# Altium schematic symbol library Plytka_rozwojowa_ZCAD.SCHLIB: 103 symbols (part 1 of 2)
Pins are listed as number, name and electrical type; pins without a type are passive.

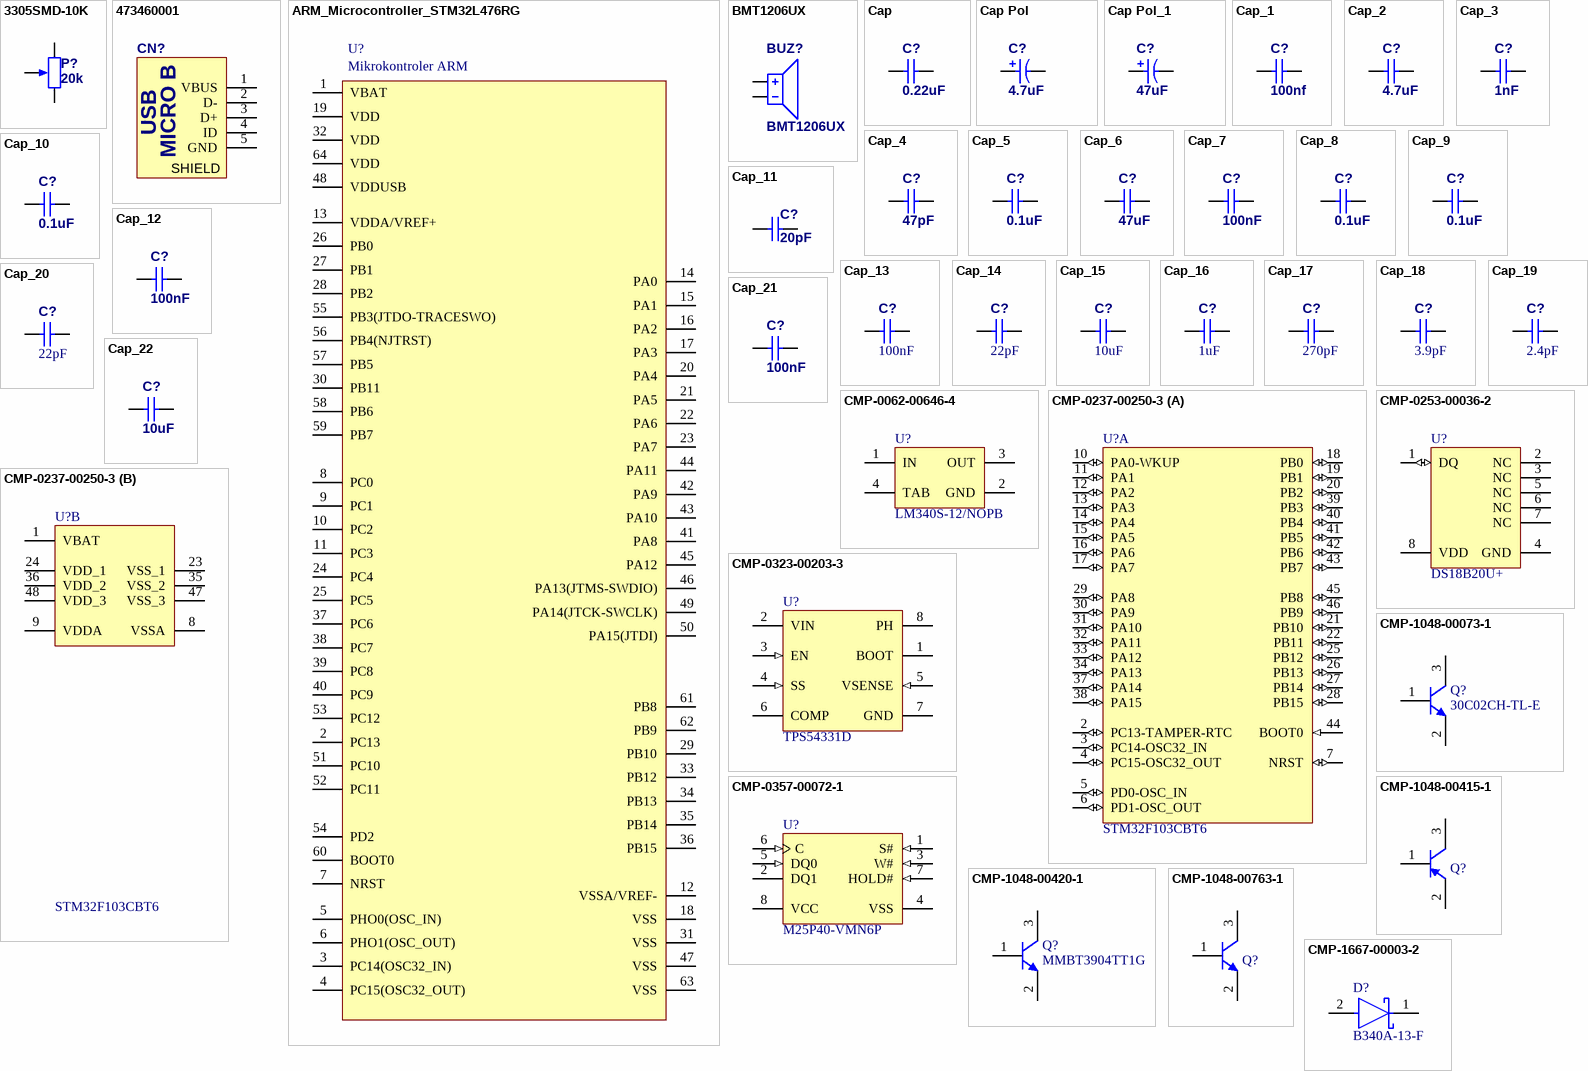
[diagram p0: symbols 3305SMD-10K to CMP-1667-00003-2]

## 3305SMD-10K
designator P?, comment 20k
3305SMD-10K; Published: 21-10-2009; ComponentLink1Description: datasheet; ComponentLink2Description: supplier; Value: 20k
footprint 3305SMD (SRPassives 3305 SMT trimming potentiometer)
pins: 1 TOP, 2 BOT, 3 TAP
1 alternate drawing of the same symbol

## 473460001
designator CN?  (value not drawn)
Molex 473460001 microUSB Connector; Published: 20-Mar-2006; Supplier 1: Farnell; Supplier 2: TME; Supplier Part Number 1: 2426321; Supplier Part Number 2: MX-47346-0001; Shop link: TME: @MX-105017-0001
footprint 473460001 (Molex 473460001 microUSB Connector)
pins: 1 VBUS "+5 VDC", 2 D- "Data -", 3 D+ "Data +", 4 ID "Ground", 5 GND "Ground", S SHIELD hidden "Shield"
text: USB; MICRO B

## ARM_Microcontroller_STM32L476RG
designator U?, comment Mikrokontroler ARM
Model: STM32L476RGT6; Shop link: https://pl.mouser.com/ProductDetail/STMicroelectronics/STM32L476RGT6?qs=o58qnh%2FCpu44V%252B7CaDZzCA%3D%3D; Quantity: *; Voltage: *; Assembly type: SMD; Footprint link: https://www.snapeda.com/parts/STM32L476RGT6/STMicroelectronics/view-part/?ref=search&t=STM32L476RGT6; Value: *; 3D model link: https://www.st.com/en/microcontrollers-microprocessors/stm32l476rg.html#cad-resources
footprint QFP50P1200X1200X160-64N
pins: 1 VBAT, 2 PC13, 3 PC14(OSC32_IN), 4 PC15(OSC32_OUT), 5 PHO0(OSC_IN), 6 PHO1(OSC_OUT), 7 NRST, 8 PC0, 9 PC1, 10 PC2, 11 PC3, 12 VSSA/VREF-, 13 VDDA/VREF+, 14 PA0, 15 PA1, 16 PA2, 17 PA3, 18 VSS, 19 VDD, 20 PA4, 21 PA5, 22 PA6, 23 PA7, 24 PC4, 25 PC5, 26 PB0, 27 PB1, 28 PB2, 29 PB10, 30 PB11, 31 VSS, 32 VDD, 33 PB12, 34 PB13, 35 PB14, 36 PB15, 37 PC6, 38 PC7, 39 PC8, 40 PC9, 41 PA8, 42 PA9, 43 PA10, 44 PA11, 45 PA12, 46 PA13(JTMS-SWDIO), 47 VSS, 48 VDDUSB, 49 PA14(JTCK-SWCLK), 50 PA15(JTDI), 51 PC10, 52 PC11, 53 PC12, 54 PD2, 55 PB3(JTDO-TRACESWO), 56 PB4(NJTRST), 57 PB5, 58 PB6, 59 PB7, 60 BOOT0, 61 PB8, 62 PB9, 63 VSS, 64 VDD

## BMT1206UX
designator BUZ?
Buzzer
footprint BUZ-12-7,6 (BUZZER (w generator), D:12mm, P:7,6mm (eg. BMT1203UX))
footprint BUZ-12-7,6-COVER (BUZZER (w generator), D:12mm, P:7,6mm (eg. BMT1203UX))
footprint Buzzer - LD-BZEG-1305 (https://www.tme.eu/pl/details/bmt-0912xh05/sygnalizatory-elektromag-z-generatorem/bestar/bmt0912xh05/)
pins: 1, 2

## Cap
designator C?  value 0.22uF
Ceramic capacitor MLCC SMD ±5%; ComponentLink1Description: datasheet; ComponentLink2Description: supplier
footprint C0805
footprint C1206
footprint CC2,5
footprint CC5
footprint CC7,5
footprint CC5-10-15
footprint C0603
footprint C0402
footprint CF5X10,5X10,3-7,5 (Polyester capacitor, 5(W)x10,5(H)x10,3(L); WIMA MKS4)
footprint CF2,5X7X10-7,5 (Polyester capacitor, 2,5(W)x7(H)x10(L); WIMA MKS4)
simulation model CAP (Default semiconductor capacitor)
footprint C1206_OLD
footprint C1210 (Chip Capacitor, Body 3.2x2.5mm, IPC High Density)
pins: 1, 2
2 alternate drawings of the same symbol

## Cap Pol
designator C?  value 4.7uF
Polarized Capacitor SMD low ESR ±1%; ComponentLink1Description: datasheet; ComponentLink2Description: supplier
footprint CE6,3x11-2,5 (Aluminium Electrolytic Capacitor -  Radius: 6,3mm, Height: 11mm, PinSpacing: 2,5mm)
footprint CE8x11,5-3,5 (Aluminium Electrolytic Capacitor -  Radius: 8mm, Height: 11,5mm, PinSpacing: 3,5mm)
footprint CE10x16-5 (Aluminium Electrolytic Capacitor -  Radius: 10mm, Height: 16mm, PinSpacing: 5mm)
footprint CE22-10 (Aluminium Electrolytic Capacitor -  Radius: 22mm, Height: xx mm, PinSpacing: 10mm)
footprint CE4x7-1,5 (Aluminium Electrolytic Capacitor -  Radius: 4mm, Height: 7mm, PinSpacing: 2mm)
footprint CE5x7-2 (Aluminium Electrolytic Capacitor -  Radius: 5mm, Height: 7mm, PinSpacing: 2mm)
footprint CE5x7-2_RA (Aluminium Electrolytic Capacitor -  Radius: 5mm, Height: 7mm, PinSpacing: 2mm, Right Angle)
footprint CE5x11-2 (Aluminium Electrolytic Capacitor -  Radius: 5mm, Height: 11mm, PinSpacing: 2mm)
footprint CE5x11-2_RA (Aluminium Electrolytic Capacitor -  Radius: 5mm, Height: 11mm, PinSpacing: 2mm, Right Angle)
footprint CE6,3x7-2,5 (Aluminium Electrolytic Capacitor -  Radius: 6,3mm, Height: 7mm, PinSpacing: 2,5mm)
footprint CE6,3x7-2,5_RA (Aluminium Electrolytic Capacitor -  Radius: 6,3mm, Height: 7mm, PinSpacing: 2,5mm, Right Angle)
footprint CE6,3x11-2 (Aluminium Electrolytic Capacitor -  Radius: 6,3mm, Height: 11mm, PinSpacing: 2,5mm)
footprint CE6,3x11-2_RA (Aluminium Electrolytic Capacitor -  Radius: 6,3mm, Height: 11mm, PinSpacing: 2mm, Right Angle)
footprint CE6,3x11-2,5_RA (Aluminium Electrolytic Capacitor -  Radius: 6,3mm, Height: 11mm, PinSpacing: 2,5mm, Right Angle)
footprint CE6,3x12,5-2,5 (Aluminium Electrolytic Capacitor -  Radius: 6,3mm, Height: 11mm, PinSpacing: 2,5mm)
footprint CE6,3x12,5-2,5_RA (Aluminium Electrolytic Capacitor -  Radius: 6,3mm, Height: 12,5mm, PinSpacing: 2,5mm, Right Angle)
footprint CE8x11,5-3,5_RA (Aluminium Electrolytic Capacitor -  Radius: 8mm, Height: 11,5mm, PinSpacing: 3,5mm, Right Angle)
footprint CE10x12,5-5 (Aluminium Electrolytic Capacitor -  Radius: 10mm, Height: 12,5mm, PinSpacing: 5mm)
footprint CE10x12,5-5_RA (Aluminium Electrolytic Capacitor -  Radius: 10mm, Height: 12,5mm, PinSpacing: 5mm, Right Angle)
footprint CE10x16-5_RA (Aluminium Electrolytic Capacitor -  Radius: 10mm, Height: 16mm, PinSpacing: 5mm, Right Angle)
footprint CE10x20-5 (Aluminium Electrolytic Capacitor -  Radius: 10mm, Height: 20mm, PinSpacing: 5mm)
footprint CE10x20-5_RA (Aluminium Electrolytic Capacitor -  Radius: 10mm, Height: 20mm, PinSpacing: 5mm, Right Angle)
footprint CES_A_3.3x3.3_5.4 (Electrolit Capacitor A Size; base: 3.3x3.3mm, height: 5.4mm)
footprint CES_B_4.3x4.3_5.4 (SMT Aluminum Electrolytic Capacitor, B Size; base: 4.3x4.3mm, height: 5.4mm)
footprint CES_C_5.3x5.3_5.4 (SMT Aluminum Electrolytic Capacitor, C Size; base: 5.3x5.3mm, height: 5.4mm)
footprint CES_D_6.6x6.6_5.4 (SMT Aluminum Electrolytic Capacitor, D Size; base: 6.6x6.6mm, height: 5.4mm)
footprint CES_D8_6.6x6.6_7.7 (SMT Aluminum Electrolytic Capacitor, D8 Size; base: 6.6x6.6mm, height: 7.7mm)
footprint CES_E_8.3x8.3_6.2 (SMT Aluminum Electrolytic Capacitor, E Size; base: 8.3x8.3mm, height: 6.2mm)
footprint CES_F_8.3x8.3_10.2 (SMT Aluminum Electrolytic Capacitor, F Size; base: 8.3x8.3mm, height: 10.2mm)
footprint CES_G_10.3x10.3_10.2 (SMT Aluminum Electrolytic Capacitor, G Size; base: 10.3x10.3mm, height: 10.2mm)
simulation model CAP (Default semiconductor capacitor)
pins: 1, 2
2 alternate drawings of the same symbol

## Cap Pol_1
designator C?  value 47uF
Polarized Capacitor SMD low ESR ±1%; ComponentLink1Description: datasheet; ComponentLink2Description: supplier
footprint CE6,3x11-2,5 (Aluminium Electrolytic Capacitor -  Radius: 6,3mm, Height: 11mm, PinSpacing: 2,5mm)
footprint CE8x11,5-3,5 (Aluminium Electrolytic Capacitor -  Radius: 8mm, Height: 11,5mm, PinSpacing: 3,5mm)
footprint CE10x16-5 (Aluminium Electrolytic Capacitor -  Radius: 10mm, Height: 16mm, PinSpacing: 5mm)
footprint CE22-10 (Aluminium Electrolytic Capacitor -  Radius: 22mm, Height: xx mm, PinSpacing: 10mm)
footprint CE4x7-1,5 (Aluminium Electrolytic Capacitor -  Radius: 4mm, Height: 7mm, PinSpacing: 2mm)
footprint CE5x7-2 (Aluminium Electrolytic Capacitor -  Radius: 5mm, Height: 7mm, PinSpacing: 2mm)
footprint CE5x7-2_RA (Aluminium Electrolytic Capacitor -  Radius: 5mm, Height: 7mm, PinSpacing: 2mm, Right Angle)
footprint CE5x11-2 (Aluminium Electrolytic Capacitor -  Radius: 5mm, Height: 11mm, PinSpacing: 2mm)
footprint CE5x11-2_RA (Aluminium Electrolytic Capacitor -  Radius: 5mm, Height: 11mm, PinSpacing: 2mm, Right Angle)
footprint CE6,3x7-2,5 (Aluminium Electrolytic Capacitor -  Radius: 6,3mm, Height: 7mm, PinSpacing: 2,5mm)
footprint CE6,3x7-2,5_RA (Aluminium Electrolytic Capacitor -  Radius: 6,3mm, Height: 7mm, PinSpacing: 2,5mm, Right Angle)
footprint CE6,3x11-2 (Aluminium Electrolytic Capacitor -  Radius: 6,3mm, Height: 11mm, PinSpacing: 2,5mm)
footprint CE6,3x11-2_RA (Aluminium Electrolytic Capacitor -  Radius: 6,3mm, Height: 11mm, PinSpacing: 2mm, Right Angle)
footprint CE6,3x11-2,5_RA (Aluminium Electrolytic Capacitor -  Radius: 6,3mm, Height: 11mm, PinSpacing: 2,5mm, Right Angle)
footprint CE6,3x12,5-2,5 (Aluminium Electrolytic Capacitor -  Radius: 6,3mm, Height: 11mm, PinSpacing: 2,5mm)
footprint CE6,3x12,5-2,5_RA (Aluminium Electrolytic Capacitor -  Radius: 6,3mm, Height: 12,5mm, PinSpacing: 2,5mm, Right Angle)
footprint CE8x11,5-3,5_RA (Aluminium Electrolytic Capacitor -  Radius: 8mm, Height: 11,5mm, PinSpacing: 3,5mm, Right Angle)
footprint CE10x12,5-5 (Aluminium Electrolytic Capacitor -  Radius: 10mm, Height: 12,5mm, PinSpacing: 5mm)
footprint CE10x12,5-5_RA (Aluminium Electrolytic Capacitor -  Radius: 10mm, Height: 12,5mm, PinSpacing: 5mm, Right Angle)
footprint CE10x16-5_RA (Aluminium Electrolytic Capacitor -  Radius: 10mm, Height: 16mm, PinSpacing: 5mm, Right Angle)
footprint CE10x20-5 (Aluminium Electrolytic Capacitor -  Radius: 10mm, Height: 20mm, PinSpacing: 5mm)
footprint CE10x20-5_RA (Aluminium Electrolytic Capacitor -  Radius: 10mm, Height: 20mm, PinSpacing: 5mm, Right Angle)
footprint CES_A_3.3x3.3_5.4 (Electrolit Capacitor A Size; base: 3.3x3.3mm, height: 5.4mm)
footprint CES_B_4.3x4.3_5.4 (SMT Aluminum Electrolytic Capacitor, B Size; base: 4.3x4.3mm, height: 5.4mm)
footprint CES_C_5.3x5.3_5.4 (SMT Aluminum Electrolytic Capacitor, C Size; base: 5.3x5.3mm, height: 5.4mm)
footprint CES_D_6.6x6.6_5.4 (SMT Aluminum Electrolytic Capacitor, D Size; base: 6.6x6.6mm, height: 5.4mm)
footprint CES_D8_6.6x6.6_7.7 (SMT Aluminum Electrolytic Capacitor, D8 Size; base: 6.6x6.6mm, height: 7.7mm)
footprint CES_E_8.3x8.3_6.2 (SMT Aluminum Electrolytic Capacitor, E Size; base: 8.3x8.3mm, height: 6.2mm)
footprint CES_F_8.3x8.3_10.2 (SMT Aluminum Electrolytic Capacitor, F Size; base: 8.3x8.3mm, height: 10.2mm)
footprint CES_G_10.3x10.3_10.2 (SMT Aluminum Electrolytic Capacitor, G Size; base: 10.3x10.3mm, height: 10.2mm)
simulation model CAP (Default semiconductor capacitor)
pins: 1, 2
2 alternate drawings of the same symbol

## Cap_1
designator C?  value 100nf
Ceramic capacitor MLCC SMD ±5%; Voltage: 100VDC; ComponentLink1Description: datasheet; ComponentLink2Description: supplier
footprint C0805
footprint C1206
footprint CC2,5
footprint CC5
footprint CC7,5
footprint CC5-10-15
footprint C0603
footprint C0402
footprint CF5X10,5X10,3-7,5 (Polyester capacitor, 5(W)x10,5(H)x10,3(L); WIMA MKS4)
footprint CF2,5X7X10-7,5 (Polyester capacitor, 2,5(W)x7(H)x10(L); WIMA MKS4)
simulation model CAP (Default semiconductor capacitor)
footprint C1206_OLD
footprint C1210 (Chip Capacitor, Body 3.2x2.5mm, IPC High Density)
pins: 1, 2
2 alternate drawings of the same symbol

## Cap_2
designator C?  value 4.7uF
Ceramic capacitor MLCC SMD ±5%; ComponentLink1Description: datasheet; ComponentLink2Description: supplier
footprint C0805
footprint C1206
footprint CC2,5
footprint CC5
footprint CC7,5
footprint CC5-10-15
footprint C0603
footprint C0402
footprint CF5X10,5X10,3-7,5 (Polyester capacitor, 5(W)x10,5(H)x10,3(L); WIMA MKS4)
footprint CF2,5X7X10-7,5 (Polyester capacitor, 2,5(W)x7(H)x10(L); WIMA MKS4)
simulation model CAP (Default semiconductor capacitor)
footprint C1206_OLD
footprint C1210 (Chip Capacitor, Body 3.2x2.5mm, IPC High Density)
pins: 1, 2
2 alternate drawings of the same symbol

## Cap_3
designator C?  value 1nF
Ceramic capacitor MLCC SMD ±5%; ComponentLink1Description: datasheet; ComponentLink2Description: supplier
footprint C0805
footprint C1206
footprint CC2,5
footprint CC5
footprint CC7,5
footprint CC5-10-15
footprint C0603
footprint C0402
footprint CF5X10,5X10,3-7,5 (Polyester capacitor, 5(W)x10,5(H)x10,3(L); WIMA MKS4)
footprint CF2,5X7X10-7,5 (Polyester capacitor, 2,5(W)x7(H)x10(L); WIMA MKS4)
simulation model CAP (Default semiconductor capacitor)
footprint C1206_OLD
footprint C1210 (Chip Capacitor, Body 3.2x2.5mm, IPC High Density)
pins: 1, 2
2 alternate drawings of the same symbol

## Cap_4
designator C?  value 47pF
Ceramic capacitor MLCC SMD ±5%; ComponentLink1Description: datasheet; ComponentLink2Description: supplier
footprint C0805
footprint C1206
footprint CC2,5
footprint CC5
footprint CC7,5
footprint CC5-10-15
footprint C0603
footprint C0402
footprint CF5X10,5X10,3-7,5 (Polyester capacitor, 5(W)x10,5(H)x10,3(L); WIMA MKS4)
footprint CF2,5X7X10-7,5 (Polyester capacitor, 2,5(W)x7(H)x10(L); WIMA MKS4)
simulation model CAP (Default semiconductor capacitor)
footprint C1206_OLD
footprint C1210 (Chip Capacitor, Body 3.2x2.5mm, IPC High Density)
pins: 1, 2
2 alternate drawings of the same symbol

## Cap_5
designator C?  value 0.1uF
Ceramic capacitor MLCC SMD ±5%; ComponentLink1Description: datasheet; ComponentLink2Description: supplier
footprint C0805
footprint C1206
footprint CC2,5
footprint CC5
footprint CC7,5
footprint CC5-10-15
footprint C0603
footprint C0402
footprint CF5X10,5X10,3-7,5 (Polyester capacitor, 5(W)x10,5(H)x10,3(L); WIMA MKS4)
footprint CF2,5X7X10-7,5 (Polyester capacitor, 2,5(W)x7(H)x10(L); WIMA MKS4)
simulation model CAP (Default semiconductor capacitor)
footprint C1206_OLD
footprint C1210 (Chip Capacitor, Body 3.2x2.5mm, IPC High Density)
pins: 1, 2
2 alternate drawings of the same symbol

## Cap_6
designator C?  value 47uF
Ceramic capacitor MLCC SMD ±5%; ComponentLink1Description: datasheet; ComponentLink2Description: supplier
footprint C0805
footprint C1206
footprint CC2,5
footprint CC5
footprint CC7,5
footprint CC5-10-15
footprint C0603
footprint C0402
footprint CF5X10,5X10,3-7,5 (Polyester capacitor, 5(W)x10,5(H)x10,3(L); WIMA MKS4)
footprint CF2,5X7X10-7,5 (Polyester capacitor, 2,5(W)x7(H)x10(L); WIMA MKS4)
simulation model CAP (Default semiconductor capacitor)
footprint C1206_OLD
footprint C1210 (Chip Capacitor, Body 3.2x2.5mm, IPC High Density)
pins: 1, 2
2 alternate drawings of the same symbol

## Cap_7
designator C?  value 100nF
Ceramic capacitor MLCC SMD ±1%; Voltage: 100VDC; ComponentLink1Description: datasheet; ComponentLink2Description: supplier
footprint C0805
footprint C1206
footprint CC2,5
footprint CC5
footprint CC7,5
footprint CC5-10-15
footprint C0603
footprint C0402
footprint CF5X10,5X10,3-7,5 (Polyester capacitor, 5(W)x10,5(H)x10,3(L); WIMA MKS4)
footprint CF2,5X7X10-7,5 (Polyester capacitor, 2,5(W)x7(H)x10(L); WIMA MKS4)
simulation model CAP (Default semiconductor capacitor)
footprint C1206_OLD
footprint C1210 (Chip Capacitor, Body 3.2x2.5mm, IPC High Density)
pins: 1, 2
2 alternate drawings of the same symbol

## Cap_8
designator C?, comment value 0.1uF  (hidden comment: 1uF)
Ceramic capacitor MLCC SMD ±5%; ComponentLink1Description: datasheet; ComponentLink2Description: supplier
footprint C0805
footprint C1206
footprint CC2,5
footprint CC5
footprint CC7,5
footprint CC5-10-15
footprint C0603
footprint C0402
footprint CF5X10,5X10,3-7,5 (Polyester capacitor, 5(W)x10,5(H)x10,3(L); WIMA MKS4)
footprint CF2,5X7X10-7,5 (Polyester capacitor, 2,5(W)x7(H)x10(L); WIMA MKS4)
simulation model CAP (Default semiconductor capacitor)
footprint C1206_OLD
footprint C1210 (Chip Capacitor, Body 3.2x2.5mm, IPC High Density)
pins: 1, 2
2 alternate drawings of the same symbol

## Cap_9
designator C?, comment value 0.1uF  (hidden comment: 100n)
Ceramic capacitor MLCC SMD ±5%; ComponentLink1Description: datasheet; ComponentLink2Description: supplier
footprint C0805
footprint C1206
footprint CC2,5
footprint CC5
footprint CC7,5
footprint CC5-10-15
footprint C0603
footprint C0402
footprint CF5X10,5X10,3-7,5 (Polyester capacitor, 5(W)x10,5(H)x10,3(L); WIMA MKS4)
footprint CF2,5X7X10-7,5 (Polyester capacitor, 2,5(W)x7(H)x10(L); WIMA MKS4)
simulation model CAP (Default semiconductor capacitor)
footprint C1206_OLD
footprint C1210 (Chip Capacitor, Body 3.2x2.5mm, IPC High Density)
pins: 1, 2
2 alternate drawings of the same symbol

## Cap_10
designator C?, comment value 0.1uF  (hidden comment: 10uF)
Ceramic capacitor MLCC SMD ±5%; ComponentLink1Description: datasheet; ComponentLink2Description: supplier
footprint C0805
footprint C1206
footprint CC2,5
footprint CC5
footprint CC7,5
footprint CC5-10-15
footprint C0603
footprint C0402
footprint CF5X10,5X10,3-7,5 (Polyester capacitor, 5(W)x10,5(H)x10,3(L); WIMA MKS4)
footprint CF2,5X7X10-7,5 (Polyester capacitor, 2,5(W)x7(H)x10(L); WIMA MKS4)
simulation model CAP (Default semiconductor capacitor)
footprint C1206_OLD
footprint C1210 (Chip Capacitor, Body 3.2x2.5mm, IPC High Density)
pins: 1, 2
2 alternate drawings of the same symbol

## Cap_11
designator C?, comment 20pF
Ceramic capacitor MLCC SMD ±1%; ComponentLink1Description: datasheet; ComponentLink2Description: supplier; Value: 20pF
footprint C0805
footprint C1206
footprint CC2,5
footprint CC5
footprint CC7,5
footprint CC5-10-15
footprint C0603
footprint C0402
footprint CF5X10,5X10,3-7,5 (Polyester capacitor, 5(W)x10,5(H)x10,3(L); WIMA MKS4)
footprint CF2,5X7X10-7,5 (Polyester capacitor, 2,5(W)x7(H)x10(L); WIMA MKS4)
simulation model CAP (Default semiconductor capacitor)
footprint C1206_OLD
footprint C1210 (Chip Capacitor, Body 3.2x2.5mm, IPC High Density)
pins: 1, 2
2 alternate drawings of the same symbol

## Cap_12
designator C?, comment 100nF
Ceramic capacitor MLCC SMD ±5%; ComponentLink1Description: datasheet; ComponentLink2Description: supplier; Value: 100nF
footprint C0805
footprint C1206
footprint CC2,5
footprint CC5
footprint CC7,5
footprint CC5-10-15
footprint C0603
footprint C0402
footprint CF5X10,5X10,3-7,5 (Polyester capacitor, 5(W)x10,5(H)x10,3(L); WIMA MKS4)
footprint CF2,5X7X10-7,5 (Polyester capacitor, 2,5(W)x7(H)x10(L); WIMA MKS4)
simulation model CAP (Default semiconductor capacitor)
footprint C1206_OLD
footprint C1210 (Chip Capacitor, Body 3.2x2.5mm, IPC High Density)
pins: 1, 2
2 alternate drawings of the same symbol

## Cap_13
designator C?, comment 100nF
Ceramic capacitor MLCC SMD ±1%; ComponentLink1Description: datasheet; ComponentLink2Description: supplier; Value: 100nF
footprint C0805
footprint C1206
footprint CC2,5
footprint CC5
footprint CC7,5
footprint CC5-10-15
footprint C0603
footprint C0402
footprint CF5X10,5X10,3-7,5 (Polyester capacitor, 5(W)x10,5(H)x10,3(L); WIMA MKS4)
footprint CF2,5X7X10-7,5 (Polyester capacitor, 2,5(W)x7(H)x10(L); WIMA MKS4)
simulation model CAP (Default semiconductor capacitor)
footprint C1206_OLD
footprint C1210 (Chip Capacitor, Body 3.2x2.5mm, IPC High Density)
pins: 1, 2
2 alternate drawings of the same symbol

## Cap_14
designator C?, comment 22pF
Ceramic capacitor MLCC SMD ±1%; ComponentLink1Description: datasheet; ComponentLink2Description: supplier; Value: 22pF
footprint C0805
footprint C1206
footprint CC2,5
footprint CC5
footprint CC7,5
footprint CC5-10-15
footprint C0603
footprint C0402
footprint CF5X10,5X10,3-7,5 (Polyester capacitor, 5(W)x10,5(H)x10,3(L); WIMA MKS4)
footprint CF2,5X7X10-7,5 (Polyester capacitor, 2,5(W)x7(H)x10(L); WIMA MKS4)
simulation model CAP (Default semiconductor capacitor)
footprint C1206_OLD
footprint C1210 (Chip Capacitor, Body 3.2x2.5mm, IPC High Density)
pins: 1, 2
2 alternate drawings of the same symbol

## Cap_15
designator C?, comment 10uF
Ceramic capacitor MLCC SMD ±1%; Value: 100nF; ComponentLink1Description: datasheet; ComponentLink2Description: supplier
footprint C0805
footprint C1206
footprint CC2,5
footprint CC5
footprint CC7,5
footprint CC5-10-15
footprint C0603
footprint C0402
footprint CF5X10,5X10,3-7,5 (Polyester capacitor, 5(W)x10,5(H)x10,3(L); WIMA MKS4)
footprint CF2,5X7X10-7,5 (Polyester capacitor, 2,5(W)x7(H)x10(L); WIMA MKS4)
simulation model CAP (Default semiconductor capacitor)
footprint C1206_OLD
footprint C1210 (Chip Capacitor, Body 3.2x2.5mm, IPC High Density)
pins: 1, 2
2 alternate drawings of the same symbol

## Cap_16
designator C?, comment 1uF
Ceramic capacitor MLCC SMD ±1%; Value: 100nF; ComponentLink1Description: datasheet; ComponentLink2Description: supplier
footprint C0805
footprint C1206
footprint CC2,5
footprint CC5
footprint CC7,5
footprint CC5-10-15
footprint C0603
footprint C0402
footprint CF5X10,5X10,3-7,5 (Polyester capacitor, 5(W)x10,5(H)x10,3(L); WIMA MKS4)
footprint CF2,5X7X10-7,5 (Polyester capacitor, 2,5(W)x7(H)x10(L); WIMA MKS4)
simulation model CAP (Default semiconductor capacitor)
footprint C1206_OLD
footprint C1210 (Chip Capacitor, Body 3.2x2.5mm, IPC High Density)
pins: 1, 2
2 alternate drawings of the same symbol

## Cap_17
designator C?, comment 270pF
Ceramic capacitor MLCC SMD ±1%; Value: 100nF; ComponentLink1Description: datasheet; ComponentLink2Description: supplier
footprint C0805
footprint C1206
footprint CC2,5
footprint CC5
footprint CC7,5
footprint CC5-10-15
footprint C0603
footprint C0402
footprint CF5X10,5X10,3-7,5 (Polyester capacitor, 5(W)x10,5(H)x10,3(L); WIMA MKS4)
footprint CF2,5X7X10-7,5 (Polyester capacitor, 2,5(W)x7(H)x10(L); WIMA MKS4)
simulation model CAP (Default semiconductor capacitor)
footprint C1206_OLD
footprint C1210 (Chip Capacitor, Body 3.2x2.5mm, IPC High Density)
pins: 1, 2
2 alternate drawings of the same symbol

## Cap_18
designator C?, comment 3.9pF
Ceramic capacitor MLCC SMD ±1%; Value: 100nF; ComponentLink1Description: datasheet; ComponentLink2Description: supplier
footprint C0805
footprint C1206
footprint CC2,5
footprint CC5
footprint CC7,5
footprint CC5-10-15
footprint C0603
footprint C0402
footprint CF5X10,5X10,3-7,5 (Polyester capacitor, 5(W)x10,5(H)x10,3(L); WIMA MKS4)
footprint CF2,5X7X10-7,5 (Polyester capacitor, 2,5(W)x7(H)x10(L); WIMA MKS4)
simulation model CAP (Default semiconductor capacitor)
footprint C1206_OLD
footprint C1210 (Chip Capacitor, Body 3.2x2.5mm, IPC High Density)
pins: 1, 2
2 alternate drawings of the same symbol

## Cap_19
designator C?, comment 2.4pF
Ceramic capacitor MLCC SMD ±1%; Value: 100nF; ComponentLink1Description: datasheet; ComponentLink2Description: supplier
footprint C0805
footprint C1206
footprint CC2,5
footprint CC5
footprint CC7,5
footprint CC5-10-15
footprint C0603
footprint C0402
footprint CF5X10,5X10,3-7,5 (Polyester capacitor, 5(W)x10,5(H)x10,3(L); WIMA MKS4)
footprint CF2,5X7X10-7,5 (Polyester capacitor, 2,5(W)x7(H)x10(L); WIMA MKS4)
simulation model CAP (Default semiconductor capacitor)
footprint C1206_OLD
footprint C1210 (Chip Capacitor, Body 3.2x2.5mm, IPC High Density)
pins: 1, 2
2 alternate drawings of the same symbol

## Cap_20
designator C?, comment 22pF
Ceramic capacitor MLCC SMD ±1%; Value: 100nF; ComponentLink1Description: datasheet; ComponentLink2Description: supplier
footprint C0805
footprint C1206
footprint CC2,5
footprint CC5
footprint CC7,5
footprint CC5-10-15
footprint C0603
footprint C0402
footprint CF5X10,5X10,3-7,5 (Polyester capacitor, 5(W)x10,5(H)x10,3(L); WIMA MKS4)
footprint CF2,5X7X10-7,5 (Polyester capacitor, 2,5(W)x7(H)x10(L); WIMA MKS4)
simulation model CAP (Default semiconductor capacitor)
footprint C1206_OLD
footprint C1210 (Chip Capacitor, Body 3.2x2.5mm, IPC High Density)
pins: 1, 2
2 alternate drawings of the same symbol

## Cap_21
designator C?, comment 100nF
Capacitor; ComponentLink1Description: datasheet; ComponentLink2Description: supplier; Value: 100nF
footprint C0805
footprint C1206
footprint CC2,5
footprint CC5
footprint CC7,5
footprint CC5-10-15
footprint C0603
footprint C0402
footprint CF5X10,5X10,3-7,5 (Polyester capacitor, 5(W)x10,5(H)x10,3(L); WIMA MKS4)
footprint CF2,5X7X10-7,5 (Polyester capacitor, 2,5(W)x7(H)x10(L); WIMA MKS4)
simulation model CAP (Default semiconductor capacitor)
footprint C1206_OLD
footprint C1210 (Chip Capacitor, Body 3.2x2.5mm, IPC High Density)
pins: 1, 2
2 alternate drawings of the same symbol

## Cap_22
designator C?, comment 10uF
Capacitor; ComponentLink1Description: datasheet; ComponentLink2Description: supplier; Value: 10uF
footprint C0805
footprint C1206
footprint CC2,5
footprint CC5
footprint CC7,5
footprint CC5-10-15
footprint C0603
footprint C0402
footprint CF5X10,5X10,3-7,5 (Polyester capacitor, 5(W)x10,5(H)x10,3(L); WIMA MKS4)
footprint CF2,5X7X10-7,5 (Polyester capacitor, 2,5(W)x7(H)x10(L); WIMA MKS4)
simulation model CAP (Default semiconductor capacitor)
footprint C1206_OLD
footprint C1210 (Chip Capacitor, Body 3.2x2.5mm, IPC High Density)
pins: 1, 2
2 alternate drawings of the same symbol

## CMP-0062-00646-4
designator U?, comment LM340S-12/NOPB
Series 3-Terminal Positive Regulators, 3-pin TO-263, Pb-Free; Manufacturer: Texas Instruments; Manufacturer 1: TI National Semiconductor; PackageTopMarking: NSUZXYTTE#*LM340S*-12 P+; CompType: LDO IC; PowerWise: N; Voltage: 35V; Current: 1.5A; RoHS: Y; PackageDescription: TO-263, Molded, .400 x .390 x .180in, 3 Lead, .1in Pitch, Surface Mount; ComponentLink1URL: http://www.ti.com/general/docs/lit/getliterature.tsp?genericPartNumber=LM340&fileType=pdf; PinCount: 3; ComponentLink1Description: Datasheet URL; Code_JEDEC: MO-169-AA; PackageReference: KTT0003B; Footprint: TO-263; Footprint model: https://octopart.com/lm340s-12%2Fnopb-texas+instruments-24813791?r=sp#CadModels; 3D model: https://octopart.com/lm340s-12%2Fnopb-texas+instruments-24813791?r=sp#CadModels; Shop link: Mouser: @926-LM340S-12/NOPB; Manufacturer Part Number 1: LM340S-12/NOPB
footprint KTT0003B_N (D2-PAK, 3-Leads, Body 10.41x8.89mm, Pitch 2.54mm, IPC Medium Density)
footprint KTT0003B_M (D2-PAK, 3-Leads, Body 10.41x8.89mm, Pitch 2.54mm, IPC Low Density)
footprint KTT0003B_L (D2-PAK, 3-Leads, Body 10.41x8.89mm, Pitch 2.54mm, IPC High Density)
pins: 1 IN (power), 2 GND (power), 3 OUT (power), 4 TAB (power)

## CMP-0237-00250-3
designator U?, comment STM32F103CBT6
ARM Cortex-M3 32-bit MCU, 128 KB Flash, 20 KB Internal RAM, 37 I/Os, 48-pin LQFP, -40 to 85 degC, Tray; Manufacturer 1: STMicroelectronics; Supply Voltage(Vcc) min (V): 2; Operating Frequency(F) (Processor speed) (MHz): 72; A/D Converter: 2x12-bit (10 Channel); FLASH Size (Prog) (kB): 128; Internal RAM Size (kB): 20; I/Os (High Current): 37; Voltage: 3.3V; ComponentLink2Description: Datasheet; PackageReference: LQFP48; PartNumber: STM32F103CBT6; ComponentLink1Description: Manufacturer URL; DatasheetVersion: Rev. 16; PackageVersion: Rev. 6, 06/2013; Packing: Tray; ComponentLink1URL: http://www.st.com/web/en/home.html; Mounting Technology: Surface Mount; ComponentLink3URL: http://www.st.com/st-web-ui/static/active/en/resource/technical/document/datasheet/DM00058181.pdf; PackageDescription: 48-Pin Low Profile Quad Flat Package, 7 x 7 mm Body, 0.5 mm Pitch; Core: ARM Cortex-M3; ComponentLink3Description: Package Specification; ComponentLink2URL: http://www.st.com/st-web-ui/static/active/en/resource/technical/document/datasheet/CD00161566.pdf; Footprint: LQFP; Footprint model: https://octopart.com/stm32f103cbt6-stmicroelectronics-7868657?r=sp#Specs; 3D model: https://octopart.com/stm32f103cbt6-stmicroelectronics-7868657?r=sp#Specs; Shop link: Digi-Key: @497-6288-ND; Manufacturer Part Number 1: STM32F103CBT6
footprint STM-LQFP48_L (QFP, 48-Leads, Body 7x7mm, Pitch 0.5mm, IPC High Density)
footprint STM-LQFP48_N (QFP, 48-Leads, Body 7x7mm, Pitch 0.5mm, IPC Medium Density)
footprint STM-LQFP48_M (QFP, 48-Leads, Body 7x7mm, Pitch 0.5mm, IPC Low Density)
part A pins: 2 PC13-TAMPER-RTC (io) "PC13-TAMPER-RTC/PC13/TAMPER-RTC", 3 PC14-OSC32_IN (io) "PC14-OSC32_IN/PC14/OSC32_IN", 4 PC15-OSC32_OUT (io) "PC15-OSC32_OUT/PC15/OSC32_OUT", 5 PD0-OSC_IN (io) "PD0/OSC_IN", 6 PD1-OSC_OUT (io) "PD1/OSC_OUT", 7 NRST (io), 10 PA0-WKUP (io) "PA0-WKUP/PA0/WKUP/USART2_CTS/ADC12_IN0/TIM2_CH1_ETR", 11 PA1 (io) "PA1/USART2_RTS/ADC12_IN1/TIM2_CH2", 12 PA2 (io) "PA2/USART2_TX/ADC12_IN2/TIM2_CH3", 13 PA3 (io) "PA3/USART2_RX/ADC12_IN3/TIM2_CH4", 14 PA4 (io) "PA4/SPI1_NSS/USART2_CK/ADC12_IN4", 15 PA5 (io) "PA5/SPI1_SCK/ADC12_IN5", 16 PA6 (io) "PA6/SPI1_MISO/ADC12_IN6/TIM3_CH1/TIM1_BKIN", 17 PA7 (io) "PA7/SPI1_MOSI/ADC12_IN7/TIM3_CH2/TIM1_CH1N", 18 PB0 (io) "PB0/ADC12_IN8/TIM3_CH3/TIM1_CH2N", 19 PB1 (io) "PB1/ADC12_IN9/TIM3_CH4/TIM1_CH3N", 20 PB2 (io) "PB2/BOOT1", 21 PB10 (io) "PB10/I2C2_SCL/USART3_TX/TIM2_CH3", 22 PB11 (io) "PB11/I2C2_SDA/USART3_RX/TIM2_CH4", 25 PB12 (io) "PB12/SPI2_NSS/I2C2_SMBAl/USART3_CK/TIM1_BKIN", 26 PB13 (io) "PB13/SPI2_SCK/USART3_CTS/TIM1_CH1N", 27 PB14 (io) "PB14/SPI2_MISO/USART3_RTS/TIM1_CH2N", 28 PB15 (io) "PB15/SPI2_MOSI/TIM1_CH3N", 29 PA8 (io) "PA8/USART1_CK/TIM1_CH1/MCO", 30 PA9 (io) "PA9/USART1_TX/TIM1_CH2", 31 PA10 (io) "PA10/USART1_RX/TIM1_CH3", 32 PA11 (io) "PA11/USART1_CTS/CANRX/USBDM/TIM1_CH4", 33 PA12 (io) "PA12/USART1_RTS/CANTX/USBDP/TIM1_ETR", 34 PA13 (io) "PA13/JTMS/SWDIO", 37 PA14 (io) "PA14/JTCK/SWCLK", 38 PA15 (io) "PA15/JTDI/TIM2_CH1_ETR/SPI1_NSS", 39 PB3 (io) "PB3/JTDO/TIM2_CH2/TRACESWO/SPI1_SCK", 40 PB4 (io) "PB4/NJTRST/TIM3_CH1/SPI1_MISO", 41 PB5 (io) "PB5/I2C1_SMBAI/TIM3_CH2/SPI1_MOSI", 42 PB6 (io) "PB6/I2C1_SCL/TIM4_CH1/USART1_TX", 43 PB7 (io) "PB7/I2C1_SDA/TIM4_CH2/USART1_RX", 44 BOOT0 (in), 45 PB8 (io) "PB8/TIM4_CH3/I2C1_SCL/CANRX", 46 PB9 (io) "PB9/TIM4_CH4/I2C1_SDA/CANTX"
part B pins: 1 VBAT (power), 8 VSSA (power), 9 VDDA (power), 23 VSS_1 (power), 24 VDD_1 (power), 35 VSS_2 (power), 36 VDD_2 (power), 47 VSS_3 (power), 48 VDD_3 (power)

## CMP-0253-00036-2
designator U?, comment DS18B20U+
High-Precision 1-Wire Digital Thermometer, -55 to 125 degC, 8-Pin SOP (U8+1), Pb-Free; Manufacturer 1: Maxim; Sensor Type: Local; Multi Droppable: Yes; Temp. Thresh.: Programmable (NV); PackageVersion: Rev. L, 08/2009; Generic Part Number: DS18B20; PackageReference: U8+1; PackageDescription: 8-Pin Micro-MAX, Thin Shrink Small-Outline (U8+1), Body 3 x 3 mm, Pitch 0.65 mm; ComponentLink3URL: http://pdfserv.maximintegrated.com/package_dwgs/21-0036.PDF; Code_JEDEC: MO-187; DatasheetVersion: Rev. 4; ComponentLink1Description: Manufacturer URL; Mounting Technology: Surface Mount; ComponentLink1URL: http://www.maximintegrated.com/; Parasite Pwr.: Yes; RoHS: Pb-Free; ComponentLink2URL: http://datasheets.maximintegrated.com/en/ds/DS18B20.pdf; ComponentLink2Description: Datasheet; Interface: 1-Wire; PartNumber: DS18B20U+; ComponentLink3Description: Package Specification; Manufacturer Part Number 1: DS18B20U+
footprint MAXM-U8+1_L (SOP, 8-Leads, Body 3x3mm, Pitch 0.65mm, IPC High Density)
footprint MAXM-U8+1_N (SOP, 8-Leads, Body 3x3mm, Pitch 0.65mm, IPC Medium Density)
footprint MAXM-U8+1_M (SOP, 8-Leads, Body 3x3mm, Pitch 0.65mm, IPC Low Density)
pins: 1 DQ (io) "Data Input/Output. Open-drain 1-Wire interface pin. Also provides power to the device when used in parasite power mode (see the Powering the DS18B20 section.)", 2 NC "No Connection", 3 NC "No Connection", 4 GND (power) "Ground", 5 NC "No Connection", 6 NC "No Connection", 7 NC "No Connection", 8 VDD (power) "Optional VDD. VDD must be grounded for operation in parasite power mode."

## CMP-0323-00203-3
designator U?, comment TPS54331D
Buck Step Down Regulator SMD  -40 to 150 degC,; Manufacturer: Texas Instruments; Regulated Outputs(#): 1; Vout(Min)(V): 0.8; Iout(Max)(A): 3; Vin(Min)(V): 3.5; Eco-Plan: Green (RoHS & no Sb/Br); Rating: Catalog; SubFamily: Step-Down Regulator; Vout(Max)(V): 25; Iq(Typ)(mA): 0.11; Vin(Max)(V): 28; Duty Cycle(Max)(%): 90; Current: 3A; Voltage: 3.5 to 28 VIN ; 0.8 to 25 VOUT; ComponentLink3Description: URL Link1; ComponentLink1URL: http://www.ti.com/general/docs/lit/getliterature.tsp?genericPartNumber=TPS54331&fileType=pdf; Code_JEDEC: MS-012AA; PartNumber: TPS54331D; PackageVersion: revM, Jun-2011; ComponentLink1Description: Datasheet; PackageReference: D0008A; PackageDescription: 8-Pin Plastic Small Outline Integrated Circuit, 4.9 x 3.9 mm, Pitch 1.27 mm Pitch; ComponentLink2URL: http://www.ti.com/litv/pdf/msoi002j; DatasheetVersion: SLVS839D; Topology: Buck; Switch Current Limit(Typ)(A): 3.5; ComponentLink3URL: Samples URL:http://www.ti.com/product/tps54331#samples; ComponentLink2Description: Package Specification; Mounting Technology: Surface Mount; Footprint: 8-Pin SOIC (D); Footprint model: https://octopart.com/tps54331d-texas+instruments-8252552?r=sp; 3D model: https://octopart.com/tps54331d-texas+instruments-8252552?r=sp; Shop link: RS Components: @6618521P; Manufacturer 1: Texas Instruments; Manufacturer Part Number 1: TPS54331D
footprint D0008A_L (SOIC, 8-Leads, Body 5x4mm, Pitch 1.27mm, IPC High Density)
footprint D0008A_M (SOIC, 8-Leads, Body 5x4mm, Pitch 1.27mm, IPC Low Density)
footprint D0008A_N (SOIC, 8-Leads, Body 5x4mm, Pitch 1.27mm, IPC Medium Density)
pins: 1 BOOT "A 0.1 uF bootstrap capacitor is required between BOOT and PH. If the voltage on this capacitor falls below the minimum requirement, the high-side MOSFET is forced to switch off until the capacitor is refreshed", 2 VIN (power) "Input supply voltage, 3.5 V to 28 V.", 3 EN (in) "Enable pin. Pull below 1.25V to disable. Float to enable. Programming the input undervoltage lockout with two resistors is recommended.", 4 SS (in) "Slow start pin. An external capacitor connected to this pin sets the output rise time.", 5 VSENSE (in) "Inverting node of the gm error amplifier.", 6 COMP "Error amplifier output, and input to the PWM comparator. Connect frequency compensation components to this pin.", 7 GND (power) "Ground", 8 PH (power) "The source of the internal high-side power MOSFET"

## CMP-0357-00072-1
designator U?, comment M25P40-VMN6P
4 Mb (x1) Serial NOR Flash Memory, 75 MHz, 2.3 to 3.6 V, 8-pin SO8 Narrow (MN), Tube; Manufacturer: Micron; Part Family: M25PÂ; Manufacturer 1: Micron Technology; Speed: 75 MHzÂ; Density: 4MbÂ; Voltage: 2.3V-3.6VÂ; PackageDescription: 8-Pin SO Narrow, 3.9 X 4.9 mm, Pitch 1.27 mm; ComponentLink2URL: http://www.micron.com/~/media/Documents/Products/Data%20Sheet/NOR%20Flash/Serial%20NOR/M25P/M25P40.pdf; Part Status: ProductionÂ; Package: SO8 NarrowÂ; RoHS: YesÂ; PackageReference: MICT-MN-8; Mounting Technology: Surface Mount; Type: Data StorageÂ; DatasheetVersion: Rev. Y; ComponentLink2Description: Datasheet; PartNumber: M25P40-VMN6P; Width: x1Â; ComponentLink1URL: http://www.micron.com/; ComponentLink3Description: Package Specification; Applications: EmbeddedÂ; ComponentLink1Description: Manufacturer URL; PackageVersion: Rev 11; ComponentLink3URL: http://www.micron.com/~/media/Documents/Products/Data%20Sheet/NOR%20Flash/Serial%20NOR/M25P/M25P05A.pdf; Manufacturer Part Number 1: M25P40-VMN6P
footprint MICT-MN-8_N (SOIC, 8-Leads, Body 5x4mm, Pitch 1.27mm, IPC Medium Density)
pins: 1 S# (in) "Chip select: When the S# input signal is HIGH, the device is deselected and DQ1 is at HIGH impedance. Unless an internal PROGRAM, ERASE, or WRITE STATUS REGISTER cycle is in progress, the device will be in the standby power (See Datasheet)", 2 DQ1 (hiz) "Serial data: The DQ1 output signal is used to transfer data serially out of the device. Data is shifted out on the falling edge of the serial clock (C).", 3 W# (in) "Write protect: The W# input signal is used to freeze the size of the area of memory that is protected against program or erase commands as specified by the values in BP2, BP1, and BP0 bits of the Status Register.", 4 VSS (power) "Ground: Reference for the VCC supply voltage.", 5 DQ0 (in) "Serial data: The DQ0 input signal is used to transfer data serially into the device. It receives commands, addresses, and the data to be programmed. Values are latched on the rising edge of the serial clock (C).", 6 C (in) "Clock: The C input signal provides the timing of the serial interface. Commands, addresses, or data present at serial data input (DQ0) is latched on the rising edge of the serial clock (C). Data on DQ1 changes after the (See Datasheet)", 7 HOLD# (in) "Hold: The HOLD# signal is used to pause any serial communications with the device without deselecting the device. During the hold condition, DQ1 is High-Z. DQ0 and C are "Don’t Care." To start the hold condition, the device (See Datasheet)", 8 VCC (power) "Device core power supply: Source voltage."

## CMP-1048-00073-1
designator Q?, comment 30C02CH-TL-E
Bipolar Transistor,, Low VCE(sat), NPN Single, 3-Pin CPH, Pb-Free, Tape and Reel; Manufacturer: On Semiconductor; IC Continuous (A): 0.7; Current: 0.7 A; Voltage: 30 V; PackageDescription: 3-Pin Small Outline Transistor, Body 2.9 x 1.6 mm, Pitch 0.95 mm; Mounting Technology: Surface Mount; ComponentLink3Description: Package Specification; ComponentLink2URL: http://www.onsemi.com/pub_link/Collateral/30C02CH-D.PDF; ComponentLink1Description: Manufacturer URL; ComponentLink2Description: Datasheet; Polarity: NPN; ComponentLink3URL: http://www.onsemi.com/pub_link/Collateral/50A02CH-D.PDF; ComponentLink1URL: http://www.onsemi.com/; PackageReference: CPH-3; RoHS: TRUE; PartNumber: 30C02CH-TL-E; Packing: Tape and Reel; Footprint: SC; Footprint model: https://octopart.com/30c02ch-tl-e-onsemi-20815499?r=sp#Specs; 3D model: https://octopart.com/30c02ch-tl-e-onsemi-20815499?r=sp#Specs; Shop link: Digi-Key: @30C02CH-TL-EOSTR-ND; Manufacturer 1: ON Semiconductor; Manufacturer Part Number 1: 30C02CH-TL-E
footprint ONSC-CPH-3_V (SOT23, 3-Leads, Body 2.9x1.6mm, Pitch 0.95mm)
pins: 1 B, 2 E, 3 C

## CMP-1048-00415-1
designator Q?, comment TME@2SA1774G  (value not drawn)
PNP Silicon General Purpose Amplifier Transistor, 3-Pin SC-75, Pb-Free, Tape and Reel; Manufacturer: On Semiconductor; IC Continuous (A): -0.1; ComponentLink2URL: http://www.onsemi.com/pub_link/Collateral/2SA1774-D.PDF; Mounting Technology: Surface Mount; PartNumber: 2SA1774G; ComponentLink2Description: Datasheet; PackageDescription: 3-Pin Small Outline Transistor, Body 1.6 x 0.8 mm, Pitch 0.5 mm; RoHS: TRUE; Packing: Tape and Reel; PackageVersion: Rev. F, 07/2005; ComponentLink1URL: http://www.onsemi.com/; ComponentLink3Description: Package Specification; ComponentLink3URL: http://www.onsemi.com/pub_link/Collateral/463-01.PDF; ComponentLink1Description: Manufacturer URL; Polarity: PNP; DatasheetVersion: Rev. 9; PackageReference: SC-75-3-463-01; ComponentLink4Description: TME; ComponentLink4URL: https://www.tme.eu/en/details/2sa1774g/pnp-smd-transistors/onsemi/; Manufacturer 1: ON Semiconductor; Manufacturer Part Number 1: 2SA1774G
footprint ONSC-SC-75-3-463-01_V (SOT23, 3-Leads, Body 1.6x0.8mm, Pitch 0.5mm)
pins: 1 B, 2 E, 3 C

## CMP-1048-00420-1
designator Q?, comment MMBT3904TT1G
General Purpose Transistor, NPN Silicon, 3-Pin SC-75, Pb-Free, Tape and Reel; Manufacturer: On Semiconductor; IC Continuous (A): 0.2; fT Min (MHz): 300; ComponentLink3URL: http://www.onsemi.com/pub_link/Collateral/463-01.PDF; DatasheetVersion: Rev. 5; RoHS: TRUE; Mounting Technology: Surface Mount; ComponentLink1URL: http://www.onsemi.com/; ComponentLink3Description: Package Specification; PackageReference: SC-75-3-463-01; Polarity: NPN; ComponentLink2Description: Datasheet; PackageVersion: Rev. F, 07/2005; PartNumber: MMBT3904TT1G; ComponentLink2URL: http://www.onsemi.cn/pub_link/Collateral/MMBT3904TT1-D.PDF; ComponentLink1Description: Manufacturer URL; PackageDescription: 3-Pin Small Outline Transistor, Body 1.6 x 0.8 mm, Pitch 0.5 mm; Packing: Tape and Reel; Manufacturer 1: ON Semiconductor; Manufacturer Part Number 1: MMBT3904TT1G
footprint ONSC-SC-75-3-463-01_V (SOT23, 3-Leads, Body 1.6x0.8mm, Pitch 0.5mm)
pins: 1 B, 2 E, 3 C

## CMP-1048-00763-1
designator Q?, comment TME@BC847ALT1G  (value not drawn)
General Purpose Transistor, NPN Silicon, 3-Pin SOT-23, Pb-Free, Tape and Reel; Manufacturer: On Semiconductor; IC Continuous (A): 0.1; fT Min (MHz): 100; Mounting Technology: Surface Mount; ComponentLink1Description: Manufacturer URL; PackageDescription: 3-Pin Small Outline Transistor, Body 2.92 x 1.3 mm, Pitch 0.95 mm; PartNumber: BC847ALT1G; PackageVersion: Rev. AP, 11/2009; ComponentLink3Description: Package Specification; DatasheetVersion: Rev. 11; ComponentLink1URL: http://www.onsemi.com/; PackageReference: SOT-23-3-318-08; ComponentLink2Description: Datasheet; Packing: Tape and Reel; Polarity: NPN; ComponentLink3URL: http://www.onsemi.cn/pub_link/Collateral/318-08.PDF; RoHS: TRUE; ComponentLink2URL: http://www.onsemi.cn/pub_link/Collateral/BC846ALT1-D.PDF; ComponentLink4Description: TME; ComponentLink4URL: https://www.tme.eu/en/details/bc847alt1g/npn-smd-transistors/onsemi/; Manufacturer 1: ON Semiconductor; Manufacturer Part Number 1: BC847ALT1G
footprint ONSC-SOT-23-3-318-08_V (SOT23, 3-Leads, Body 2.92x1.3mm, Pitch 0.95mm)
pins: 1 B, 2 E, 3 C

## CMP-1667-00003-2
designator D?, comment B340A-13-F
Diode Schottky SMA Capacitance 250mF forward Voltage 500mV; Manufacturer 1: Diodes; Peak Non-Repetitive Surge Current: 80A; Max Reverse Voltage (DC): 40V; Peak Reverse Current: 500uA; Polarity: Standard; Capacitance: 250pF; Average Rectified Current: 3A; Element Configuration: Single; Length: 4.6mm; Number of Pins: 2; Contact Plating: Tin; Min Operating Temperature: -55°C; Package Quantity: 5000; REACH SVHC: No SVHC; Voltage Rating (DC): 40V; Max Forward Surge Current (Ifsm): 80A; Forward Current: 3A; Output Current: 3A; Height: 2.3mm; Current Rating: 3A; Voltage: 40V; Max Operating Temperature: 125°C; Forward Voltage: 500mV; Packaging: Tape and Reel; Current: 3A; Termination: SMD/SMT; Radiation Hardening: No; Case/Package: SMA; Width: 2.92mm; Max Repetitive Reverse Voltage (Vrrm): 40V; Mount: Surface Mount; Weight: 0.002258oz; Lead Free: Lead Free; Footprint: SMA; Shop link: RS Components: @7384778P; Footprint model: https://octopart.com/b340a-13-f-diodes+inc.-325815?r=sp; 3D model: https://octopart.com/b340a-13-f-diodes+inc.-325815?r=sp; Manufacturer Part Number 1: B340A-13-F
footprint FP-SMA-MFG
pins: 1 C, 2 A

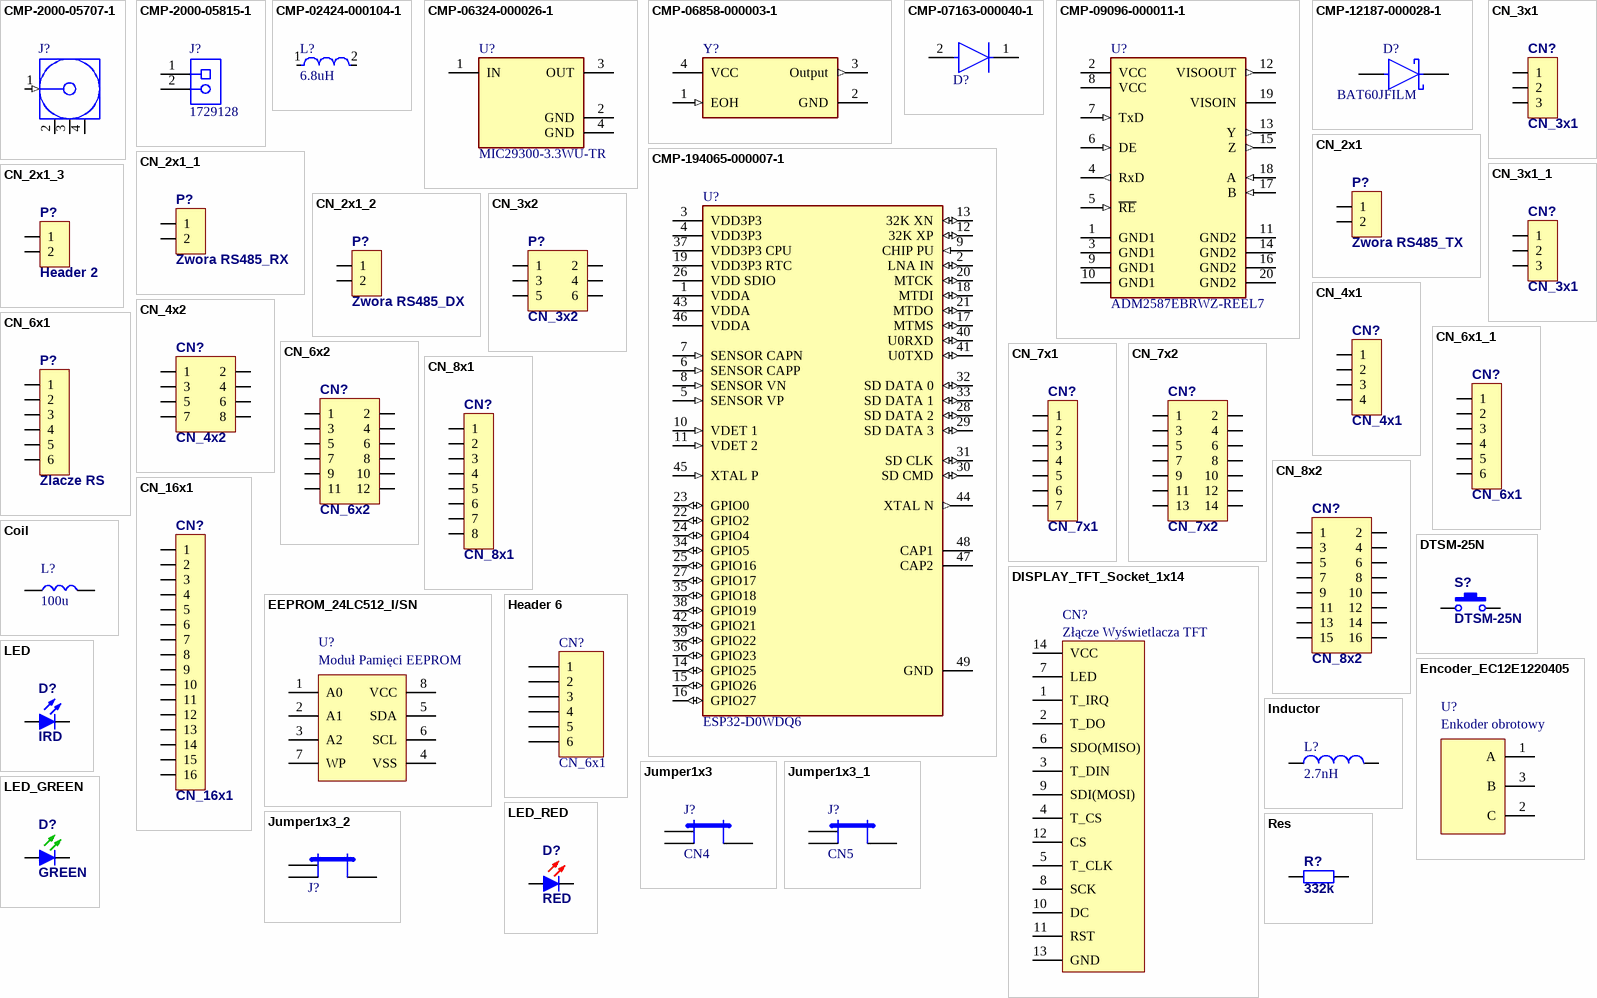
[diagram p1: symbols CMP-2000-05707-1 to Res]

## CMP-2000-05707-1
designator J?, comment TME@908-22101T  (value not drawn)
Female MMCX Connector, 1 Position, Height 3.607 mm, -40 to 90 degC, RoHS, Bulk; Manufacturer: Amphenol; Manufacturer 1: Amphenol RF; Impedance: 50Ohm; Body Material: BerylliumCopper; Shield Termination: Solder; Body Finish: Gold; Frequency - Max: 6GHz; Connector Type: Jack,FemaleSocket; Other Names: 90822101ARF1724; Dielectric Material: LiquidCrystalPolymer(LCP); Online Catalog: MMCX,MicroMate™Series; 3D Model: 908-22101.igs; Fastening Type: Snap-On; Connector Style: MMCX; Standard Package: 1; Manufacturer URL: http://www.amphenol.com/; Series: MicroMate™; Mounting Type: SurfaceMount; Housing Color: Black; Operating Temperature: -55°C~155°C; Package Reference: 908-22101; Packaging: Bulk; Voltage Rating: -; Cable Group: -; Features: -; Datasheet URL: http://www.amphenolrf.com/downloads/dl/file/id/2664/product/2399/908_22101_customer_drawing.pdf; Center Contact Material: BerylliumCopper; Package Description: Female MMCX Connector, 1 Position, Height 3.607 mm; Center Contact Plating: Gold; Category: Connectors,Interconnects; Mounting Technology: SurfaceMount; Contact Termination: Solder; Ingress Protection: -; Datasheet Version: Rev. A, 05/1997; Family: CoaxialConnectors(RF); ComponentLink1Description: TME; ComponentLink1URL: https://www.tme.eu/pl/details/908-22101t/zlacza-mcx-mmcx/amphenol-icc/; Manufacturer Part Number 1: 908-22101
footprint AMPH-908-22101_V (Connector, 4-Leads, Body 4.318x4.318mm)
pins: 1 SIGNAL (in), 2 GND (power), 3 GND (power), 4 GND (power)

## CMP-2000-05815-1
designator J?, comment 1729128
PCB Terminal Block Phoenix Contact,, 2-Pin THD, RoHS, Bulk; Package Version: 03/2015; No. of Rows: 1; Pitch: 5.08mm; No. of Positions: 2; Voltage: 400V; Current Rating: 13500mA; Current: 13.5A; Manufacturer URL: http://www.phoenixcontact.com/; Datasheet URL: https://datasheet.ciiva.com/16046/1729128-16046181.pdf; RoHS: TRUE; Package URL: https://www.phoenixcontact.com/online/portal/pi/pxc/product_detail_page/!ut/p/b1/3VdJjqNKFDxLH8AFycySyWY2ozFsEPOMMQaDOX1XedGL_1Vdm5YXJleknhSKeBkvI6EA8ncAo3AYoDhBQGco6KN7VURTdemj9us_IEKEZo_YHiPAEWEFmDGOHMORkqKYCORBZxgL7ZoaZYcbFFUZ3fqxSY6GOuxydWUuHqz1ynmMFygu583Bob0Ewr6Sd_l-5m-kAueHiB0jpRwZwe58wwtkpxtMYd_LmGcDRU02dRNEyWt6Y2ti5pSyJ_reIkzIulrqApdnbT11V5jnCKbYNCvhEM1MCpPByat_X379-iThf08CI5GfOPqfBeS3BRoBOdD55AKVv0iLwCMq-2BrzXWSGRH7pUGD9uwXQjiph3xL0DKQwdGa0JImiIOmBNOestqgwTHSSs2oOep-78apyXQBvNi8ZLaFjvjWvcaUEBu0MC6Wbe-d6mB0FAebo2lUWinqYaZs5DAYzV0RP9yitUjnGJ0iI9xhZkT42OCQNUJJhkgWINNQLP2JFP6OpMg3JCVg70jqHT0lvKOnhHf0lPuOnnLf0VPuWx6_dxwUIvwk5WMkT0kLL1mh61l2yZVSzG3pYV_bqo-mj6uMKwKwdnnW8Jh5RTOJzMOA5c-eJDaZQw4mTMPH02PvS_ZAqNVjVTo2WyYLkwH_KU1mmmG5kjRhDqPXLwwVHvVOjCM60-fpXvTDfMGW1PVFVS1r4e4yVDk4ZdNbkUHvqPqQSeian4UD39fNKmachqdJ1NJbyk8rXT9mXTvPk3oE5meulKGgiruPJek-4I9hTT6G8ZLOyRSm2RRVbThERQad5OS28hdt4YW4vG0stgYYzsWsK4_7y6DZMjJSCqri1kyiZR5vD7pwIrNR7QwPHTcLTI5qT7eRlpHrdGiupYlqQDJ7zy_CND8fWWBoLRXxk1RVcXiBQwbTD4Xi7KL-FuO94t9xaqweXzH; PartNumber: 1729128; Package Description: 2-Pin Through Hole Device, Body 8.1 x 10.16 mm, Pitch 5.08 mm; Datasheet Version: 12/2013; Mounting Technology: ThroughHole; Orientation: Horizontal; Package Reference: 1729128-2; Manufacturer: Phoenix Contact; Packing: Bulk; Footprint model: https://octopart.com/1729128-phoenix+contact-4366?r=sp; 3D model: https://octopart.com/1729128-phoenix+contact-4366?r=sp; Shop link: Digi-Key: @277-1247-ND; Manufacturer 1: Phoenix Contact; Manufacturer Part Number 1: 1729128
footprint PHOE-1729128-2_V (Receptacle, 2-Leads, Body 8.1x10.16mm, Pitch 5.08mm)
pins: 1, 2

## CMP-02424-000104-1
designator L?, comment 6.8uH
IHLP2525CZER6R8M01 Commercial Inductors, High Saturation Series 6.8uH 4.5A 60mΩ 20%; Manufacturer 1: Vishay; Saturation Current: 8A; Self Resonant Frequency: 5MHz; Core Material: Metal; DC Resistance (DCR): 60mR; Test Frequency: 100kHz; Shielding: Shielded; Number of Pins: 2; Tolerance: 20%; Max DC Current: 8A; Max Operating Temperature: 125°C; Radiation Hardening: No; Inductance: 6.8uH; Contact Plating: Tin; RMS Current (Irms): 4.5A; Case/Package: 2525; Inductance Tolerance: 20%; Case Code (Metric): 6363; Lead Free: Lead Free; Package Quantity: 2000; Current Rating: 4.5A; Case Code (Imperial): 2525; Height - Seated (Max): 0.118inch; Height: 3mm; Mount: Surface Mount; Depth: 6.72mm; Military Standard: Not; Packaging: Tape and Reel; Min Operating Temperature: -55°C; Width: 0.255inch; Length: 7.24mm; Termination: SMD/SMT; Current: 4.5A; Footprint: 2525; Shop link: Mouser: @70-IHLP2525CZER6R8M1; Footprint model: https://octopart.com/ihlp2525czer6r8m01-vishay-39619540?r=sp#CadModels; 3D model: https://octopart.com/ihlp2525czer6r8m01-vishay-39619540?r=sp#CadModels; Manufacturer Part Number 1: IHLP2525CZER6R8M01
footprint FP-IHLP-2525CZ-FP_2_413x3-MFG
pins: 1, 2

## CMP-06324-000026-1
designator U?, comment MIC29300-3.3WU-TR
IC REG LINEAR 3.3V 3A TO263-3; Manufacturer 1: Microchip; Dropout Voltage: 370mV; Number of Regulators: 1; Case/Package: TO-263-4; Lead Free: Lead Free; Min Operating Temperature: -40°C; Mount: Surface Mount; Packaging: Tape and Reel; Output Voltage: 3.3V; Max Operating Temperature: 125°C; Output Current: 3A; Shoplink: TME: @ MIC29300-3.3WU; Manufacturer Part Number 1: MIC29300-3.3WU-TR
footprint FP-TO263-3LD-PL-1-MFG
pins: 1 IN, 2 GND, 3 OUT, 4 GND

## CMP-06858-000003-1
designator Y?, comment 625L3C040M00000  (value not drawn)
XTAL OSC XO 40.0000MHZ CMOS SMD; Manufacturer 1: CTS; Max Supply Current: 15mA; Frequency: 40MHz; Frequency Stability: 50ppm; Min Supply Voltage: 2.97V; Max Supply Voltage: 3.63V; Load Capacitance: 15pF; Operating Supply Voltage: 3.3V; Min Operating Temperature: -10°C; Length: 2.5mm; Radiation Hardening: No; Max Operating Temperature: 70°C; Depth: 2mm; Mount: Surface Mount; Height: 0.039inch; Packaging: Tape and Reel; Case/Package: CSMD; Termination: SMD/SMT; Package Quantity: 3000; Contact Plating: Gold; Width: 0.079inch; Manufacturer Part Number 1: 625L3C040M00000
footprint FP-625-MFG
pins: 1 EOH (in), 2 GND (power), 3 Output (out), 4 VCC (power)

## CMP-07163-000040-1
designator D?, comment TME@1N4148WS  (value not drawn)
DIODE GEN PURP 75V 150MA SOD323F; Manufacturer 1: ON Semiconductor / Fairchild; Forward Voltage: 1V; Power Dissipation: 200mW; Element Configuration: Single; Max Forward Surge Current (Ifsm): 2A; Peak Reverse Current: 5uA; Recovery Time: 4ns; Package Quantity: 1; Number of Pins: 2; Height: 1mm; REACH SVHC: No SVHC; Max Reverse Voltage (DC): 75V; Forward Current: 150mA; Length: 1.8mm; Max Repetitive Reverse Voltage (Vrrm): 75V; Max Operating Temperature: 150°C; Average Rectified Current: 150mA; Contact Plating: Tin; Packaging: Tape and Reel; Radiation Hardening: No; Min Operating Temperature: -55°C; Width: 1.35mm; Weight: 0.0276g; Lead Free: Lead Free; Mount: Surface Mount; Reverse Voltage: 75V; Reverse Recovery Time: 4ns; ComponentLink1Description: TME; ComponentLink1URL: https://www.tme.eu/en/details/1n4148ws/smd-universal-diodes/onsemi/; Manufacturer Part Number 1: 1N4148WS
footprint FP-477AB-IPC_C
footprint FP-477AB-IPC_B
footprint FP-477AB-IPC_A
pins: 1 C, 2 A